# Altium footprint library Deutsch ICT Con - DT13-6P.PcbLib: 1 footprints
Each footprint in its own frame and in the unit in brackets; x right, y up, seen from the top. Pads: shape width x height; smd on the part's side, far side on the other; paste and mask are expansions set on the pad; w line width, h text height; cw(c..) or ccw(c..) is an arc to the next point about the centre after c.
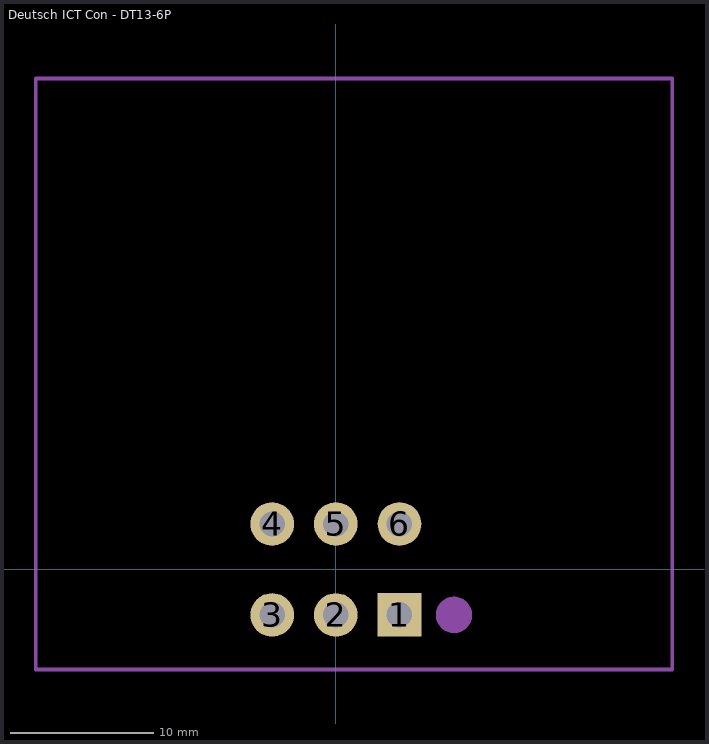
[diagram p0: the footprint, top view; thin cyan lines are the x and y axes]

## Deutsch ICT Con - DT13-6P [mil] "CONN HEADER R/A 6POS 4.44MM"
pads (6):
  rect 120x120 hole 70: 1(175,-125)
  round 120 hole 70: 2(0,-125) 3(-175,-125) 4(-175,125) 5(0,125) 6(175,125)
Mechanical 6:
  text ".Designator" at -190,704.99 h60
Mechanical 8:
  circle w50: c325,-125 r25
  lines w10: -825,-275 -825,1350 925,1350 925,-275 -825,-275
Mechanical 15:
  lines w10: -825,-275 -825,1350 925,1350 925,-275 -825,-275
3D body "c-dt13-6p-99-3d.stp": height 1444, standoff -75, extent -782.5,-250 902.5,1305